# Altium schematic symbol library BU33SD5WG-TR.SchLib: 1 symbol
Pins are listed as number, name and electrical type; pins without a type are passive.

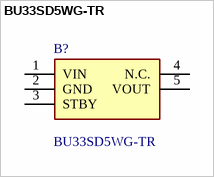
[diagram p0: symbol BU33SD5WG-TR]

## BU33SD5WG-TR
designator B?
LDO regulator,3.3V,0.5A,standby,SSOP5 ROHM BU33SD5WG-TR, LDO Voltage Regulator, 0.5A, 3.3 V +/-2%, 1.7  6 Vin, 5-Pin SSOP; Manufacturer_Name: ROHM Semiconductor; Geometry.Height: 1.25mm; Farnell Part Number: *; Farnell Price/Stock: *; Manufacturer_Part_Number: BU33SD5WG-TR; Datasheet Link: https://componentsearchengine.com/Datasheets/1/BU33SD5WG-TR.pdf
footprint SOT95P280X125-5N
pins: 1 VIN, 2 GND, 3 STBY, 4 N.C., 5 VOUT